# Altium footprint library RK3288-MID.PcbLib: 55 footprints (part 3 of 4)
Each footprint in its own frame and in the unit in brackets; x right, y up, seen from the top. Pads: shape width x height; smd on the part's side, far side on the other; paste and mask are expansions set on the pad; w line width, h text height; cw(c..) or ccw(c..) is an arc to the next point about the centre after c.
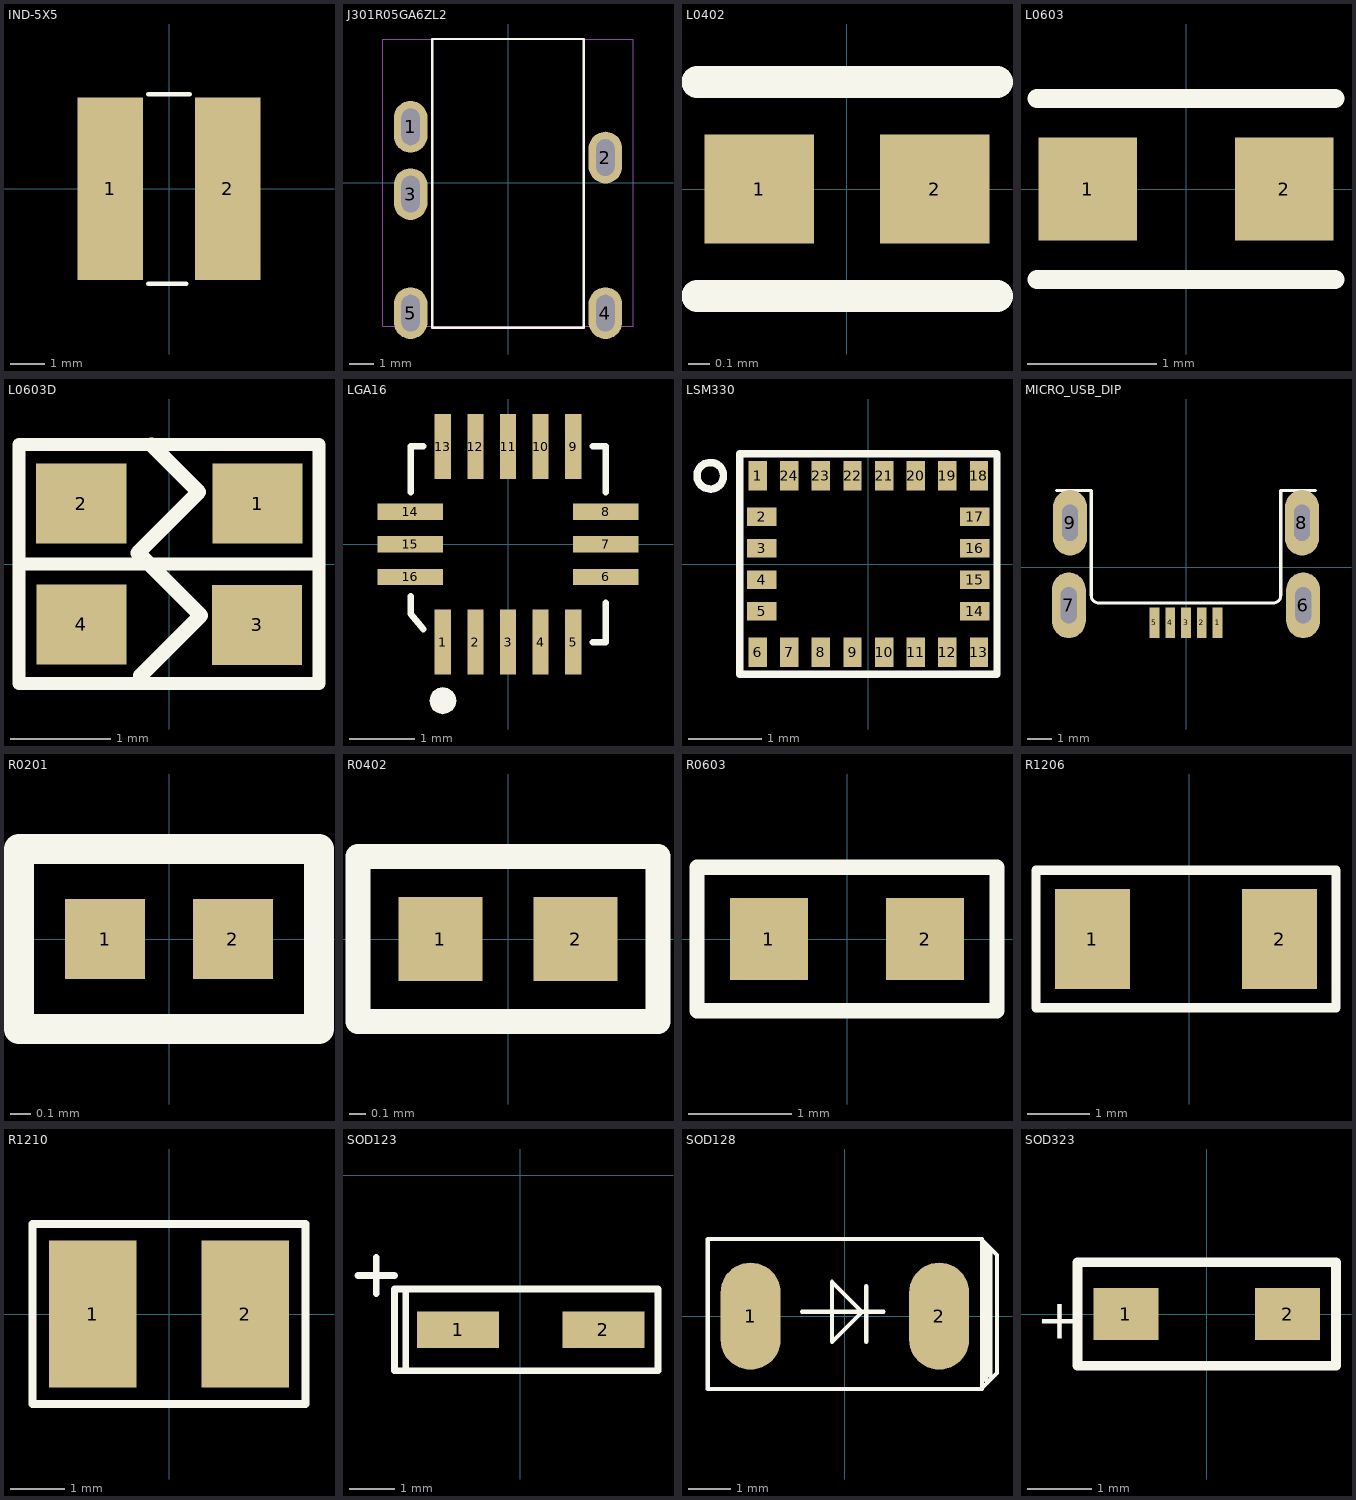
[diagram p2: the footprints below, top view; thin cyan lines are the x and y axes]

## IND-5X5 [mm] "IND-5X5"
pads (2):
  rect 1.9x5.3 smd: 1(-1.7,0) 2(1.7,0)
Top Overlay:
  lines w0.127: -0.6,-2.759 0.5,-2.759 ; -0.6,2.741 0.6,2.741
Mechanical 11:
  text "1" at -2.005,0 h0.76
  text "2" at 1.395,0 h0.76

## J301R05GA6ZL2 [mm] "J301R05GA6ZL2"
pads (5):
  oval 1.4x2.15 hole 0.762 slot 1.524 at 90 deg: 1(-4.05,2.325) 2(4.05,1.045) 3(-4.05,-0.475) 4(4.05,-5.425) 5(-4.05,-5.425)
Top Overlay:
  lines w0.1: -3.15,-6.025 -3.15,5.975 3.15,5.975 3.15,-6.025 -3.15,-6.025
Mechanical 11:
  text "5" at -4.05,-5.12 h0.76
  text "4" at 4.05,-5.12 h0.76
  text "2" at 4.05,1.35 h0.76
  text "3" at -4.05,-0.17 h0.76
  text "1" at -4.05,2.63 h0.76
Mechanical 14:
  lines w0.025: -5.2,-5.975 5.2,-5.975 5.2,5.975 -5.2,5.975 -5.2,-5.975
Mechanical 15:
  lines w0.025: -5.2,-5.975 5.2,-5.975 5.2,5.975 -5.2,5.975 -5.2,-5.975

## L0402 [mm] "L0402"
pads (2):
  rect 0.51x0.51 smd: 1(-0.41,0) 2(0.41,0)
Top Overlay:
  lines w0.15: -0.7,-0.5 0.7,-0.5 ; -0.7,0.5 0.7,0.5

## L0603 [mm] "L0603"
pads (2):
  rect 0.76x0.8 smd: 1(-0.76,0) 2(0.76,0)
Top Overlay:
  lines w0.15: -1.15,-0.7 1.15,-0.7 ; -1.15,0.7 1.15,0.7

## L0603D [mm] "L0603D"
pads (4):
  rect 0.9x0.8 smd: 1(0.881,0.605) 2(-0.88,0.605) 3(0.875,-0.605) 4(-0.88,-0.602)
Top Overlay:
  lines w0.127: -1.503,0.002 1.494,0.002 ; -1.503,-1.191 -1.503,1.196 1.494,1.196 1.494,-1.191 -1.503,-1.191
  lines w0.15: -0.29,-1.114 0.312,-0.512 -0.315,0.114 0.293,0.721 -0.179,1.193

## LGA16 [mm] "LGA16"
pads (16):
  rect 0.25x1 smd: 1(-1,-1.5) 2(-0.5,-1.5) 3(0,-1.5) 4(0.5,-1.5) 5(1,-1.5) 9(1,1.5) 10(0.5,1.5) 11(0,1.5) 12(-0.5,1.5) 13(-1,1.5)
  rect 1x0.25 smd: 6(1.5,-0.5) 7(1.5,0) 8(1.5,0.5) 14(-1.5,0.5) 15(-1.5,0) 16(-1.5,-0.5)
Top Overlay:
  region: -0.796,-2.4 -0.812,-2.322 -0.856,-2.256 -0.922,-2.212 -1,-2.196 -1.078,-2.212 -1.144,-2.256 -1.188,-2.322 -1.204,-2.4 -1.188,-2.478 -1.144,-2.544 -1.078,-2.588 -1,-2.604 -0.922,-2.588 -0.856,-2.544 -0.812,-2.478
  lines w0.1: -1.495,-0.8 -1.495,-1.067 -1.3,-1.3 ; -1.495,0.8 -1.495,1.505 -1.3,1.505 ; 1.3,-1.506 1.502,-1.506 1.502,-0.9 ; 1.3,1.505 1.502,1.505 1.502,0.8

## LSM330 [mm] "LSM330"
pads (24):
  rect 0.25x0.4 smd: 1(-1.505,1.2) 6(-1.505,-1.2) 7(-1.075,-1.2) 8(-0.645,-1.2) 9(-0.215,-1.2) 10(0.215,-1.2) 11(0.645,-1.2) 12(1.075,-1.2) 13(1.505,-1.2) 18(1.505,1.2) 19(1.075,1.2) 20(0.645,1.2) 21(0.215,1.2) 22(-0.215,1.2) 23(-0.645,1.2) 24(-1.075,1.2)
  rect 0.4x0.25 smd: 2(-1.45,0.645) 3(-1.45,0.215) 4(-1.45,-0.215) 5(-1.45,-0.645) 14(1.45,-0.645) 15(1.45,-0.215) 16(1.45,0.215) 17(1.45,0.645)
Top Overlay:
  circle w0.102: c-2.15,1.2 r0.18
  lines w0.102: -1.75,-1.5 -1.75,1.5 1.75,1.5 1.75,-1.5 -1.75,-1.5

## MICRO_USB_DIP [mm] "MICRO_USB_DIP"
pads (9):
  rect 0.4x1.25 smd: 1(1.3,-2.3) 2(0.65,-2.3) 3(0,-2.3) 4(-0.65,-2.3) 5(-1.3,-2.3)
  oval 1.4x2.7 hole 0.65 slot 1.5 at 90 deg: 6(4.825,-1.575) 7(-4.825,-1.575) 8(4.775,1.825) 9(-4.775,1.825)
Top Overlay:
  lines w0.125: -5.334,3.15 -3.9,3.15 -3.9,-1.175 ccw(c-3.6,-1.175) -3.6,-1.475 3.6,-1.475 ccw(c3.6,-1.175) 3.9,-1.175 3.9,3.15 5.334,3.15

## R0201 [mm] "R0201"
pads (2):
  rect 0.4x0.4 smd: 1(-0.32,0) 2(0.32,0)
Top Overlay:
  lines w0.15: -0.75,-0.45 0.75,-0.45 0.75,0.45 -0.75,0.45 -0.75,-0.45

## R0402 [mm] "R0402"
pads (2):
  rect 0.51x0.51 smd: 1(-0.41,0) 2(0.41,0)
Top Overlay:
  lines w0.15: -0.91,-0.5 0.91,-0.5 0.91,0.5 -0.91,0.5 -0.91,-0.5

## R0603 [mm] "R0603"
pads (2):
  rect 0.76x0.8 smd: 1(-0.76,0) 2(0.76,0)
Top Overlay:
  lines w0.15: -1.46,-0.7 1.46,-0.7 1.46,0.7 -1.46,0.7 -1.46,-0.7

## R1206 [mm] "R1206"
pads (2):
  rect 1.2x1.6 smd: 1(-1.551,-3.048) 2(1.449,-3.048)
Top Overlay:
  lines w0.15: -2.451,-4.148 2.349,-4.148 2.349,-1.948 -2.451,-1.948 -2.451,-4.148

## R1210 [mm] "R1210"
pads (2):
  rect 1.6x2.7 smd: 1(-1.4,0) 2(1.4,0)
Top Overlay:
  lines w0.15: -2.5,-1.65 2.5,-1.65 2.5,1.65 -2.5,1.65 -2.5,-1.65

## SOD123 [mm] "SOD123"
pads (2):
  rect 1.8x0.8 smd: 1(-1.371,-3.404) 2(1.829,-3.404)
Top Overlay:
  lines w0.15: -3.571,-2.204 -2.771,-2.204 ; -3.171,-2.604 -3.171,-1.804 ; -2.521,-4.304 -2.521,-2.504 ; -2.771,-4.304 3.029,-4.304 3.029,-2.504 -2.771,-2.504 -2.771,-4.304

## SOD128 [mm] "SOD128"
pads (2):
  oval 1.4x2.5 smd: 1(-2.2,0) 2(2.2,0)
Top Overlay:
  lines w0.1: -1,0.1 0.9,0.1 ; 0.5,-0.6 0.5,0.7 ; 3.2,-1.675 3.55,-1.325 3.55,1.425 3.2,1.775 ; 3.3,-1.5 3.3,1.65 ; 3.4,-1.4 3.4,1.55 ; -3.2,-1.7 -3.2,1.8 3.2,1.8 3.2,-1.7 -3.2,-1.7 ; -0.3,-0.6 -0.3,0.8 0.4,0.1 -0.3,-0.6

## SOD323 [mm] "SOD323"
pads (2):
  rect 1x0.8 smd: 1(-1.25,0) 2(1.25,0)
Top Overlay:
  lines w0.15: -2,-0.8 -2,0.8 2,0.8 2,-0.8 -2,-0.8
  text "+" at -2.642,-0.381 h0.64